# Altium footprint library EECS498Converter.PcbLib: 18 footprints (part 2 of 2)
Each footprint in its own frame and in the unit in brackets; x right, y up, seen from the top. Pads: shape width x height; smd on the part's side, far side on the other; paste and mask are expansions set on the pad; w line width, h text height; cw(c..) or ccw(c..) is an arc to the next point about the centre after c.
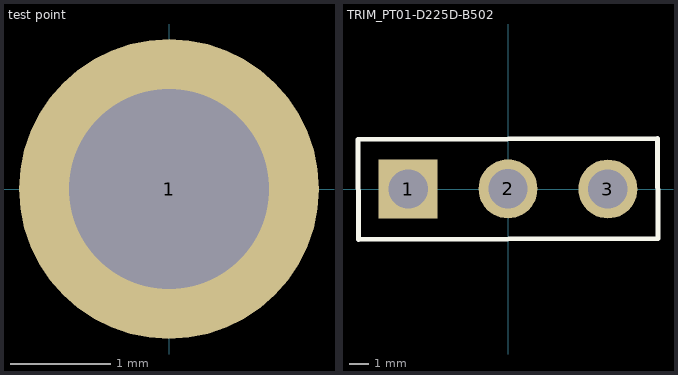
[diagram p1: the footprints below, top view; thin cyan lines are the x and y axes]

## test point [mm]
pads (1):
  round 3 hole 2: 1(0,0)

## TRIM_PT01-D225D-B502 [mm]
height 26.8
pads (3):
  rect 3x3 hole 2: 1(-5.08,0)
  round 3 hole 2: 2(0,0.007) 3(5.08,0)
Top Overlay:
  lines w0.254: -7.629,2.513 7.611,2.567 7.629,-2.513 -7.611,-2.567 -7.629,2.513